# Altium schematic symbol library DRV8323SRTAT.SchLib: 1 symbol
Pins are listed as number, name and electrical type; pins without a type are passive.

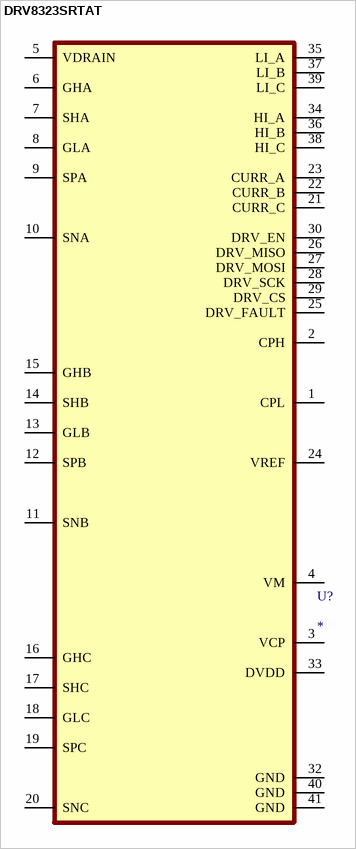
[diagram p0: symbol DRV8323SRTAT]

## DRV8323SRTAT
designator U?
footprint DRV8323SRTAT
pins: 1 CPL, 2 CPH, 3 VCP, 4 VM, 5 VDRAIN, 6 GHA, 7 SHA, 8 GLA, 9 SPA, 10 SNA, 11 SNB, 12 SPB, 13 GLB, 14 SHB, 15 GHB, 16 GHC, 17 SHC, 18 GLC, 19 SPC, 20 SNC, 21 CURR_C, 22 CURR_B, 23 CURR_A, 24 VREF, 25 DRV_FAULT, 26 DRV_MISO, 27 DRV_MOSI, 28 DRV_SCK, 29 DRV_CS, 30 DRV_EN, 32 GND, 33 DVDD, 34 HI_A, 35 LI_A, 36 HI_B, 37 LI_B, 38 HI_C, 39 LI_C, 40 GND, 41 GND